# Altium footprint library LEDs.PcbLib: 17 footprints (part 2 of 2)
Each footprint in its own frame and in the unit in brackets; x right, y up, seen from the top. Pads: shape width x height; smd on the part's side, far side on the other; paste and mask are expansions set on the pad; w line width, h text height; cw(c..) or ccw(c..) is an arc to the next point about the centre after c.
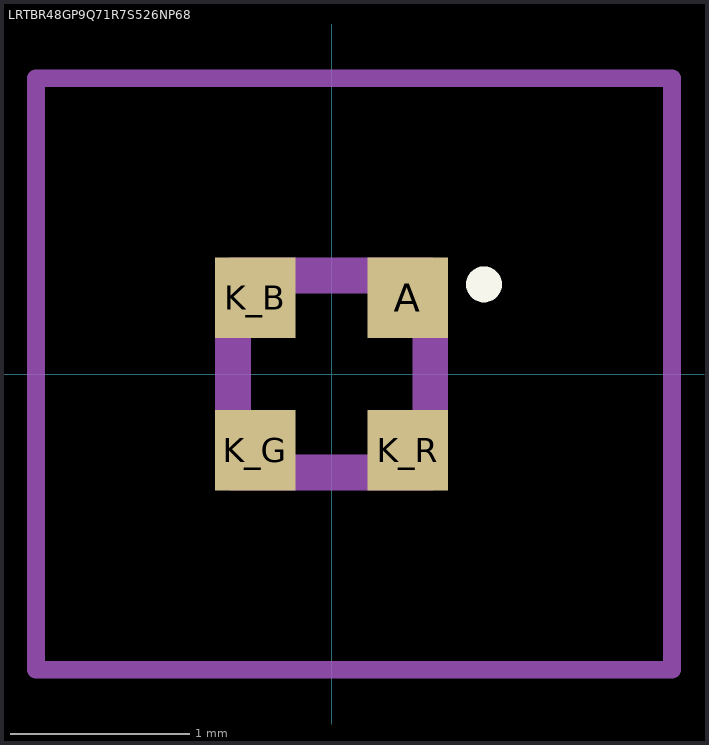
[diagram p1: the footprint, top view; thin cyan lines are the x and y axes]

## LRTBR48GP9Q71R7S526NP68 [mm]
pads (4):
  rect 0.45x0.45 smd: A(0.425,0.425) K_B(-0.425,0.425) K_G(-0.425,-0.425) K_R(0.425,-0.425)
Top Overlay:
  lines w0.1: 0.8,0.5 cw(c0.85,0.5) 0.9,0.5 cw(c0.85,0.5) 0.8,0.5
Mechanical 13:
  lines w0.2: -0.55,-0.55 -0.55,0.55 0.55,0.55 0.55,-0.55 -0.55,-0.55
Mechanical 15:
  lines w0.1: -1.65,-1.65 -1.65,1.65 ; -1.65,-1.65 1.9,-1.65 ; -1.65,-1.65 -1.65,1.65 ; -1.65,-1.65 1.9,-1.65 ; -1.65,1.65 1.9,1.65 ; -1.65,1.65 1.9,1.65 ; 1.9,-1.65 1.9,1.65 ; 1.9,-1.65 1.9,1.65
3D body "LRTBR48G-P9Q7-1+R7S5-26+NP-68.stp": height 0.75, standoff 0, extent -0.55,-0.55 0.55,0.55